# Altium integrated library Xilinx XCF.IntLib: 20 symbols
Pins are listed as number, name and electrical type; pins without a type are passive.

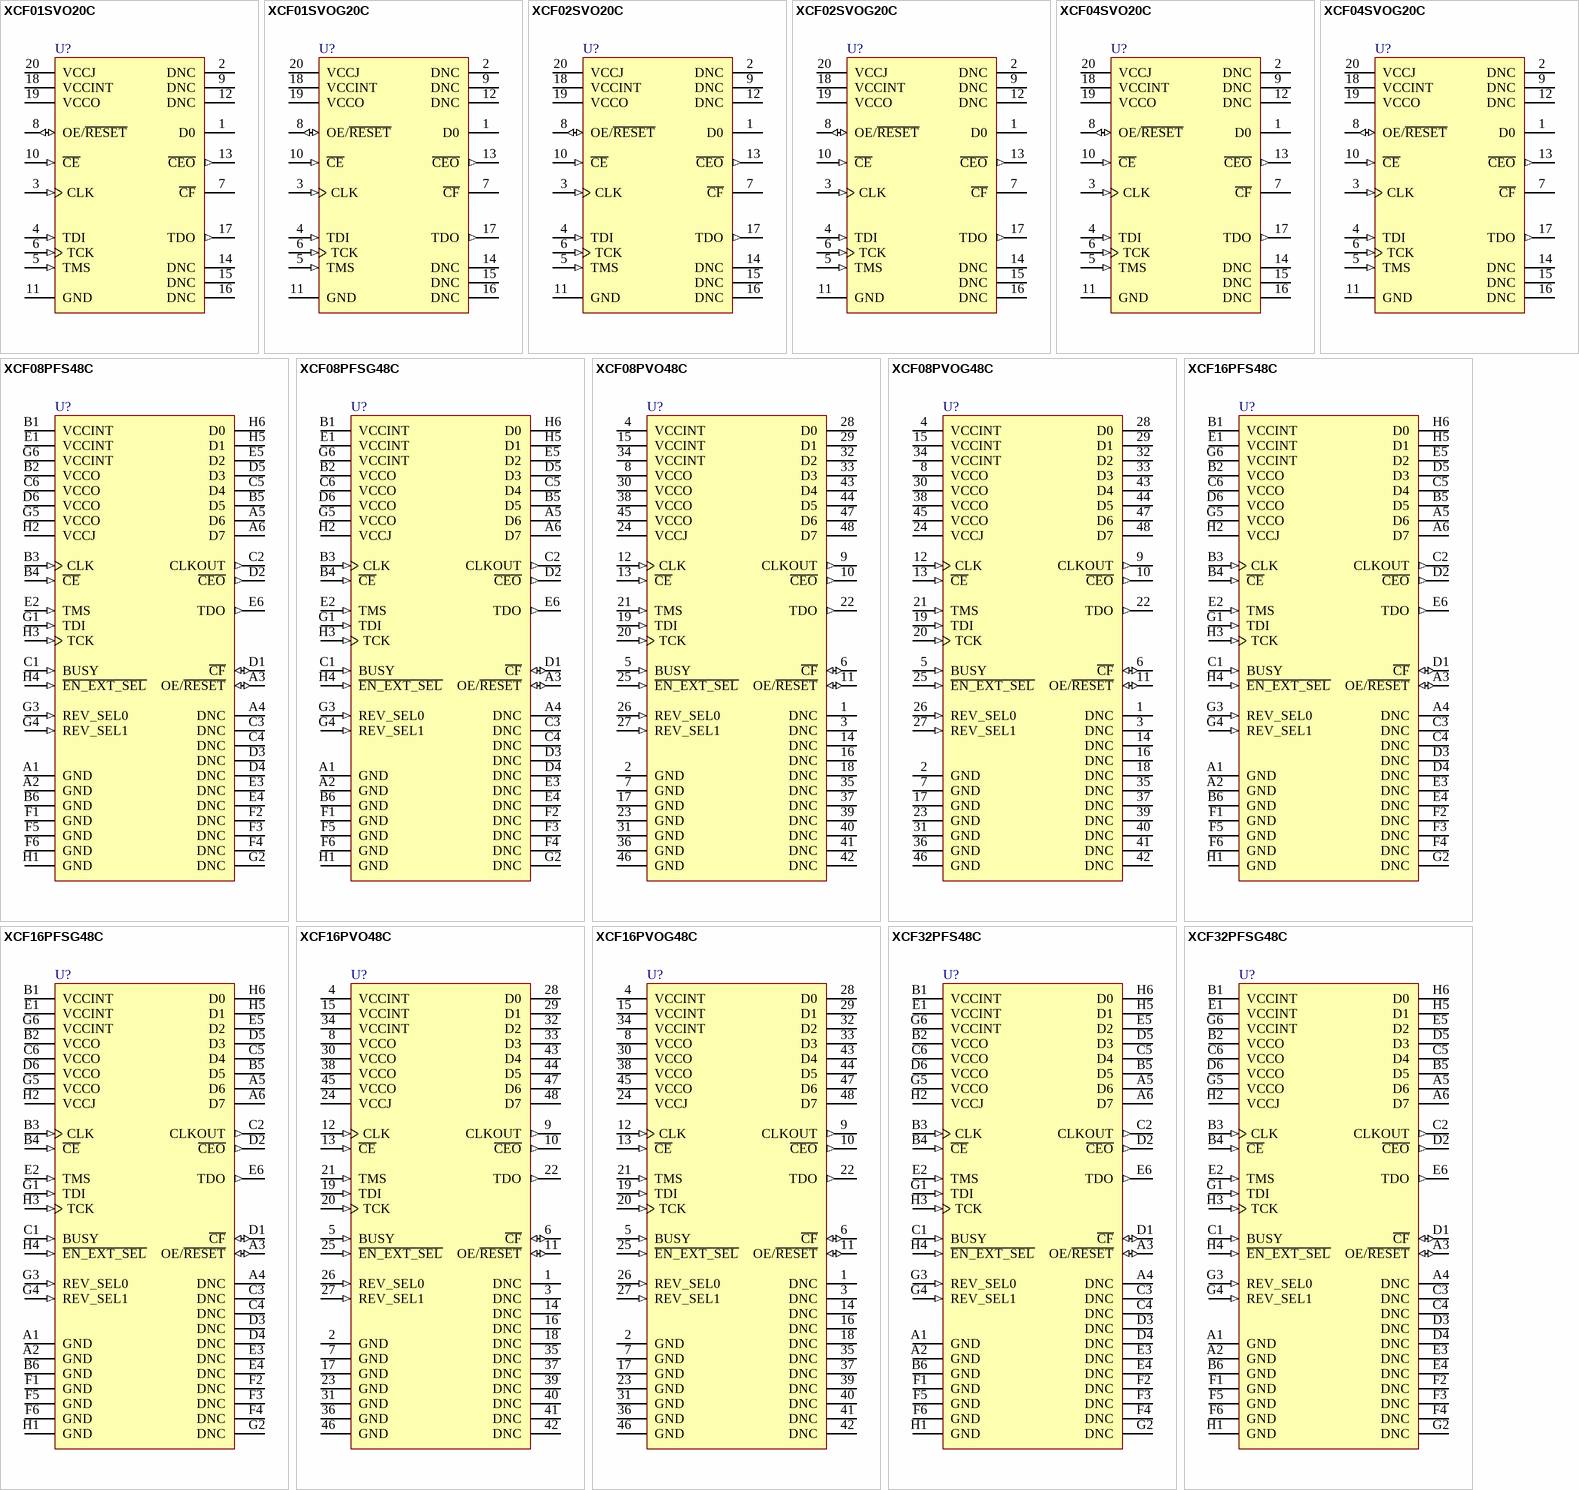
[diagram p0: symbols XCF01SVO20C to XCF32PFSG48C]

## XCF01SVO20C
designator U?
XCF00S Series, Platform Flash In-System Programmable Configuration 3.3V PROM, 20-Pin TSOP, 1-Megabit, Commercial Grade; Published: 17-Sep-2003; LatestRevisionDate: 16-Nov-2009; LatestRevisionNote: Updated to datasheet version 2.17, Oct-2009.; DatasheetVersion: ver2.17, Oct-2009; PackageVersion: ver1.3, Dec-2008; PackageReference: VO20; Publisher: Altium Limited; PackageDescription: 20-Pin Thin Shrink Small Outline Package (VO20); Supplier 1: Digi-Key; Supplier Part Number 1: XCF01SVO20C-ND; Supplier 2: Newark; Supplier Part Number 2: 70K9904; Code_JEDEC: MO-153-AC; ComponentLink1Description: Platform Flash Datasheet; ComponentLink1URL: http://www.xilinx.com/support/documentation/data_sheets/ds123.pdf; ComponentLink2Description: VO20 Package Drawing; ComponentLink2URL: http://www.xilinx.com/support/documentation/package_specs/vo20.pdf; ComponentLink3Description: Configuration PROM Documents; ComponentLink3URL: http://www.xilinx.com/support/documentation/configuration_proms.htm; ComponentLink4Description: Xilinx.com Home; ComponentLink4URL: http://www.xilinx.com
footprint VO20_N (TSOP, 20-Leads, Body 6.5x4.4mm, Pitch 0.65mm, IPC Medium Density)
footprint VO20_L (TSOP, 20-Leads, Body 6.5x4.4mm, Pitch 0.65mm, IPC High Density)
footprint VO20_M (TSOP, 20-Leads, Body 6.5x4.4mm, Pitch 0.65mm, IPC Low Density)
pins: 1 D0 (hiz) "Serial Data Output, for configuring an FPGA in serial mode.", 2 DNC "Leave Unconnected.", 3 CLK (in) "Configuration Clock Input.", 4 TDI (in) "JTAG Serial Data Input.", 5 TMS (in) "JTAG Mode Select Input.", 6 TCK (in) "JTAG Test Clock Input.", 7 ~{CF} (oc) "Configuration Pulse (Open-Drain Output).", 8 OE/~{RESET} (io) "Output Enable/Reset (Open-Drain I/O).", 9 DNC "Leave Unconnected.", 10 ~{CE} (in) "Chip Enable Input.", 11 GND (power) "Ground", 12 DNC "Leave Unconnected.", 13 ~{CEO} (out) "Chip Enable Output, connects to the CE input of the next PROM in the chain.", 14 DNC "Leave Unconnected.", 15 DNC "Leave Unconnected.", 16 DNC "Leave Unconnected.", 17 TDO (out) "JTAG Serial Data Output.", 18 VCCINT (power) "+3.3V Supply for internal logic.", 19 VCCO (power) "+3.3V, 2.5V, or 1.8V I/O Supply.", 20 VCCJ (power) "+3.3V or 2.5V JTAG Signals I/O Supply."

## XCF01SVOG20C
designator U?
XCF00S Series, Platform Flash In-System Programmable Configuration 3.3V PROM, 20-Pin TSOP, 1-Megabit, Commercial Grade, Pb-Free; Published: 4-Mar-2005; DatasheetVersion: ver2.17, Oct-2009; PackageVersion: ver1.3, Dec-2008; PackageReference: VOG20; Publisher: Altium Limited; PackageDescription: 20-Pin Thin Shrink Small Outline Package (VOG20) - Pb-Free; Supplier 1: Digi-Key; Supplier Part Number 1: 122-1286-5-ND; Supplier 2: Newark; Supplier Part Number 2: 20M0881; Code_JEDEC: MO-153-AC; ComponentLink1Description: Platform Flash Datasheet; ComponentLink1URL: http://www.xilinx.com/support/documentation/data_sheets/ds123.pdf; ComponentLink2Description: VOG20 Package Drawing; ComponentLink2URL: http://www.xilinx.com/support/documentation/package_specs/vo20.pdf; ComponentLink3Description: Configuration PROM Documents; ComponentLink3URL: http://www.xilinx.com/support/documentation/configuration_proms.htm; ComponentLink4Description: Xilinx.com Home; ComponentLink4URL: http://www.xilinx.com
footprint VOG20_N (TSOP, 20-Leads, Body 6.5x4.4mm, Pitch 0.65mm, IPC Medium Density)
footprint VOG20_L (TSOP, 20-Leads, Body 6.5x4.4mm, Pitch 0.65mm, IPC High Density)
footprint VOG20_M (TSOP, 20-Leads, Body 6.5x4.4mm, Pitch 0.65mm, IPC Low Density)
pins: 1 D0 (hiz) "Serial Data Output, for configuring an FPGA in serial mode.", 2 DNC "Leave Unconnected.", 3 CLK (in) "Configuration Clock Input.", 4 TDI (in) "JTAG Serial Data Input.", 5 TMS (in) "JTAG Mode Select Input.", 6 TCK (in) "JTAG Test Clock Input.", 7 ~{CF} (oc) "Configuration Pulse (Open-Drain Output).", 8 OE/~{RESET} (io) "Output Enable/Reset (Open-Drain I/O).", 9 DNC "Leave Unconnected.", 10 ~{CE} (in) "Chip Enable Input.", 11 GND (power) "Ground", 12 DNC "Leave Unconnected.", 13 ~{CEO} (out) "Chip Enable Output, connects to the CE input of the next PROM in the chain.", 14 DNC "Leave Unconnected.", 15 DNC "Leave Unconnected.", 16 DNC "Leave Unconnected.", 17 TDO (out) "JTAG Serial Data Output.", 18 VCCINT (power) "+3.3V Supply for internal logic.", 19 VCCO (power) "+3.3V, 2.5V, or 1.8V I/O Supply.", 20 VCCJ (power) "+3.3V or 2.5V JTAG Signals I/O Supply."

## XCF02SVO20C
designator U?
XCF00S Series, Platform Flash In-System Programmable Configuration 3.3V PROM, 20-Pin TSOP, 2-Megabit, Commercial Grade; Published: 17-Sep-2003; LatestRevisionDate: 16-Nov-2009; LatestRevisionNote: Updated to datasheet version 2.17, Oct-2009.; DatasheetVersion: ver2.17, Oct-2009; PackageVersion: ver1.3, Dec-2008; PackageReference: VO20; Publisher: Altium Limited; PackageDescription: 20-Pin Thin Shrink Small Outline Package (VO20); Supplier 1: Digi-Key; Supplier Part Number 1: XCF02SVO20C-ND; Code_JEDEC: MO-153-AC; ComponentLink1Description: Platform Flash Datasheet; ComponentLink1URL: http://www.xilinx.com/support/documentation/data_sheets/ds123.pdf; ComponentLink2Description: VO20 Package Drawing; ComponentLink2URL: http://www.xilinx.com/support/documentation/package_specs/vo20.pdf; ComponentLink3Description: Configuration PROM Documents; ComponentLink3URL: http://www.xilinx.com/support/documentation/configuration_proms.htm; ComponentLink4Description: Xilinx.com Home; ComponentLink4URL: http://www.xilinx.com
footprint VO20_N (TSOP, 20-Leads, Body 6.5x4.4mm, Pitch 0.65mm, IPC Medium Density)
footprint VO20_L (TSOP, 20-Leads, Body 6.5x4.4mm, Pitch 0.65mm, IPC High Density)
footprint VO20_M (TSOP, 20-Leads, Body 6.5x4.4mm, Pitch 0.65mm, IPC Low Density)
pins: 1 D0 (hiz) "Serial Data Output, for configuring an FPGA in serial mode.", 2 DNC "Leave Unconnected.", 3 CLK (in) "Configuration Clock Input.", 4 TDI (in) "JTAG Serial Data Input.", 5 TMS (in) "JTAG Mode Select Input.", 6 TCK (in) "JTAG Test Clock Input.", 7 ~{CF} (oc) "Configuration Pulse (Open-Drain Output).", 8 OE/~{RESET} (io) "Output Enable/Reset (Open-Drain I/O).", 9 DNC "Leave Unconnected.", 10 ~{CE} (in) "Chip Enable Input.", 11 GND (power) "Ground", 12 DNC "Leave Unconnected.", 13 ~{CEO} (out) "Chip Enable Output, connects to the CE input of the next PROM in the chain.", 14 DNC "Leave Unconnected.", 15 DNC "Leave Unconnected.", 16 DNC "Leave Unconnected.", 17 TDO (out) "JTAG Serial Data Output.", 18 VCCINT (power) "+3.3V Supply for internal logic.", 19 VCCO (power) "+3.3V, 2.5V, or 1.8V I/O Supply.", 20 VCCJ (power) "+3.3V or 2.5V JTAG Signals I/O Supply."

## XCF02SVOG20C
designator U?
XCF00S Series, Platform Flash In-System Programmable Configuration 3.3V PROM, 20-Pin TSOP, 2-Megabit, Commercial Grade, Pb-Free; Published: 4-Mar-2005; DatasheetVersion: ver2.17, Oct-2009; PackageVersion: ver1.3, Dec-2008; PackageReference: VOG20; Publisher: Altium Limited; PackageDescription: 20-Pin Thin Shrink Small Outline Package (VOG20) - Pb-Free; Supplier 1: Digi-Key; Supplier Part Number 1: 122-1287-5-ND; Code_JEDEC: MO-153-AC; ComponentLink1Description: Platform Flash Datasheet; ComponentLink1URL: http://www.xilinx.com/support/documentation/data_sheets/ds123.pdf; ComponentLink2Description: VOG20 Package Drawing; ComponentLink2URL: http://www.xilinx.com/support/documentation/package_specs/vo20.pdf; ComponentLink3Description: Configuration PROM Documents; ComponentLink3URL: http://www.xilinx.com/support/documentation/configuration_proms.htm; ComponentLink4Description: Xilinx.com Home; ComponentLink4URL: http://www.xilinx.com
footprint VOG20_N (TSOP, 20-Leads, Body 6.5x4.4mm, Pitch 0.65mm, IPC Medium Density)
footprint VOG20_L (TSOP, 20-Leads, Body 6.5x4.4mm, Pitch 0.65mm, IPC High Density)
footprint VOG20_M (TSOP, 20-Leads, Body 6.5x4.4mm, Pitch 0.65mm, IPC Low Density)
pins: 1 D0 (hiz) "Serial Data Output, for configuring an FPGA in serial mode.", 2 DNC "Leave Unconnected.", 3 CLK (in) "Configuration Clock Input.", 4 TDI (in) "JTAG Serial Data Input.", 5 TMS (in) "JTAG Mode Select Input.", 6 TCK (in) "JTAG Test Clock Input.", 7 ~{CF} (oc) "Configuration Pulse (Open-Drain Output).", 8 OE/~{RESET} (io) "Output Enable/Reset (Open-Drain I/O).", 9 DNC "Leave Unconnected.", 10 ~{CE} (in) "Chip Enable Input.", 11 GND (power) "Ground", 12 DNC "Leave Unconnected.", 13 ~{CEO} (out) "Chip Enable Output, connects to the CE input of the next PROM in the chain.", 14 DNC "Leave Unconnected.", 15 DNC "Leave Unconnected.", 16 DNC "Leave Unconnected.", 17 TDO (out) "JTAG Serial Data Output.", 18 VCCINT (power) "+3.3V Supply for internal logic.", 19 VCCO (power) "+3.3V, 2.5V, or 1.8V I/O Supply.", 20 VCCJ (power) "+3.3V or 2.5V JTAG Signals I/O Supply."

## XCF04SVO20C
designator U?
XCF00S Series, Platform Flash In-System Programmable Configuration 3.3V PROM, 20-Pin TSOP, 4-Megabit, Commercial Grade; Published: 17-Sep-2003; LatestRevisionDate: 16-Nov-2009; LatestRevisionNote: Updated to datasheet version 2.17, Oct-2009.; DatasheetVersion: ver2.17, Oct-2009; PackageVersion: ver1.3, Dec-2008; PackageReference: VO20; Publisher: Altium Limited; PackageDescription: 20-Pin Thin Shrink Small Outline Package (VO20); Supplier 1: Digi-Key; Supplier Part Number 1: XCF04SVO20C-ND; Code_JEDEC: MO-153-AC; ComponentLink1Description: Platform Flash Datasheet; ComponentLink1URL: http://www.xilinx.com/support/documentation/data_sheets/ds123.pdf; ComponentLink2Description: VO20 Package Drawing; ComponentLink2URL: http://www.xilinx.com/support/documentation/package_specs/vo20.pdf; ComponentLink3Description: Configuration PROM Documents; ComponentLink3URL: http://www.xilinx.com/support/documentation/configuration_proms.htm; ComponentLink4Description: Xilinx.com Home; ComponentLink4URL: http://www.xilinx.com
footprint VO20_N (TSOP, 20-Leads, Body 6.5x4.4mm, Pitch 0.65mm, IPC Medium Density)
footprint VO20_L (TSOP, 20-Leads, Body 6.5x4.4mm, Pitch 0.65mm, IPC High Density)
footprint VO20_M (TSOP, 20-Leads, Body 6.5x4.4mm, Pitch 0.65mm, IPC Low Density)
pins: 1 D0 (hiz) "Serial Data Output, for configuring an FPGA in serial mode.", 2 DNC "Leave Unconnected.", 3 CLK (in) "Configuration Clock Input.", 4 TDI (in) "JTAG Serial Data Input.", 5 TMS (in) "JTAG Mode Select Input.", 6 TCK (in) "JTAG Test Clock Input.", 7 ~{CF} (oc) "Configuration Pulse (Open-Drain Output).", 8 OE/~{RESET} (io) "Output Enable/Reset (Open-Drain I/O).", 9 DNC "Leave Unconnected.", 10 ~{CE} (in) "Chip Enable Input.", 11 GND (power) "Ground", 12 DNC "Leave Unconnected.", 13 ~{CEO} (out) "Chip Enable Output, connects to the CE input of the next PROM in the chain.", 14 DNC "Leave Unconnected.", 15 DNC "Leave Unconnected.", 16 DNC "Leave Unconnected.", 17 TDO (out) "JTAG Serial Data Output.", 18 VCCINT (power) "+3.3V Supply for internal logic.", 19 VCCO (power) "+3.3V, 2.5V, or 1.8V I/O Supply.", 20 VCCJ (power) "+3.3V or 2.5V JTAG Signals I/O Supply."

## XCF04SVOG20C
designator U?
XCF00S Series, Platform Flash In-System Programmable Configuration 3.3V PROM, 20-Pin TSOP, 4-Megabit, Commercial Grade, Pb-Free; Published: 4-Mar-2005; DatasheetVersion: ver2.17, Oct-2009; PackageVersion: ver1.3, Dec-2008; PackageReference: VOG20; Publisher: Altium Limited; PackageDescription: 20-Pin Thin Shrink Small Outline Package (VOG20) - Pb-Free; Supplier 1: Digi-Key; Supplier Part Number 1: 122-1288-5-ND; Supplier 2: Farnell; Supplier Part Number 2: 1605850; Supplier 3: Newark; Supplier Part Number 3: 12N2449; Code_JEDEC: MO-153-AC; ComponentLink1Description: Platform Flash Datasheet; ComponentLink1URL: http://www.xilinx.com/support/documentation/data_sheets/ds123.pdf; ComponentLink2Description: VOG20 Package Drawing; ComponentLink2URL: http://www.xilinx.com/support/documentation/package_specs/vo20.pdf; ComponentLink3Description: Configuration PROM Documents; ComponentLink3URL: http://www.xilinx.com/support/documentation/configuration_proms.htm; ComponentLink4Description: Xilinx.com Home; ComponentLink4URL: http://www.xilinx.com
footprint VOG20_N (TSOP, 20-Leads, Body 6.5x4.4mm, Pitch 0.65mm, IPC Medium Density)
footprint VOG20_L (TSOP, 20-Leads, Body 6.5x4.4mm, Pitch 0.65mm, IPC High Density)
footprint VOG20_M (TSOP, 20-Leads, Body 6.5x4.4mm, Pitch 0.65mm, IPC Low Density)
pins: 1 D0 (hiz) "Serial Data Output, for configuring an FPGA in serial mode.", 2 DNC "Leave Unconnected.", 3 CLK (in) "Configuration Clock Input.", 4 TDI (in) "JTAG Serial Data Input.", 5 TMS (in) "JTAG Mode Select Input.", 6 TCK (in) "JTAG Test Clock Input.", 7 ~{CF} (oc) "Configuration Pulse (Open-Drain Output).", 8 OE/~{RESET} (io) "Output Enable/Reset (Open-Drain I/O).", 9 DNC "Leave Unconnected.", 10 ~{CE} (in) "Chip Enable Input.", 11 GND (power) "Ground", 12 DNC "Leave Unconnected.", 13 ~{CEO} (out) "Chip Enable Output, connects to the CE input of the next PROM in the chain.", 14 DNC "Leave Unconnected.", 15 DNC "Leave Unconnected.", 16 DNC "Leave Unconnected.", 17 TDO (out) "JTAG Serial Data Output.", 18 VCCINT (power) "+3.3V Supply for internal logic.", 19 VCCO (power) "+3.3V, 2.5V, or 1.8V I/O Supply.", 20 VCCJ (power) "+3.3V or 2.5V JTAG Signals I/O Supply."

## XCF08PFS48C
designator U?
XCF00P Series, Platform Flash In-System Programmable Configuration 1.8V PROM, 48 Ball BGA, 8-Megabit, Commercial Grade; Published: 17-Dec-2003; LatestRevisionDate: 16-Nov-2009; LatestRevisionNote: Updated to datasheet version 2.17, Oct-2009.; DatasheetVersion: ver2.17, Oct-2009; PackageVersion: ver1.0.1, Apr-2005; PackageReference: FS48; Publisher: Altium Limited; PackageDescription: 48-Ball Chip Scale Ball Grid Array 0.8 mm Pitch (FS48); Code_JEDEC: MO-210-AD; ComponentLink1Description: Platform Flash Datasheet; ComponentLink1URL: http://www.xilinx.com/support/documentation/data_sheets/ds123.pdf; ComponentLink2Description: FS48 Package Drawing; ComponentLink2URL: http://www.xilinx.com/support/documentation/package_specs/fs48.pdf; ComponentLink3Description: Configuration PROM Documents; ComponentLink3URL: http://www.xilinx.com/support/documentation/configuration_proms.htm; ComponentLink4Description: Xilinx.com Home; ComponentLink4URL: http://www.xilinx.com
footprint FS48 (BGA, 48-Leads, Body 9x8mm, Pitch 0.8mm)
pins: A1 GND (power), A2 GND (power), A3 OE/~{RESET} (io), A4 DNC, A5 D6 (hiz), A6 D7 (hiz), B1 VCCINT (power), B2 VCCO (power), B3 CLK (in), B4 ~{CE} (in), B5 D5 (hiz), B6 GND (power), C1 BUSY (in), C2 CLKOUT (out), C3 DNC, C4 DNC, C5 D4 (hiz), C6 VCCO (power), D1 ~{CF} (io), D2 ~{CEO} (out), D3 DNC, D4 DNC, D5 D3 (hiz), D6 VCCO (power), E1 VCCINT (power), E2 TMS (in), E3 DNC, E4 DNC, E5 D2 (hiz), E6 TDO (out), F1 GND (power), F2 DNC, F3 DNC, F4 DNC, F5 GND (power), F6 GND (power), G1 TDI (in), G2 DNC, G3 REV_SEL0 (in), G4 REV_SEL1 (in), G5 VCCO (power), G6 VCCINT (power), H1 GND (power), H2 VCCJ (power), H3 TCK (in), H4 ~{EN_EXT_SEL} (in), H5 D1 (hiz), H6 D0 (hiz)

## XCF08PFSG48C
designator U?
XCF00P Series, Platform Flash In-System Programmable Configuration 1.8V PROM, 48 Ball BGA, 8-Megabit, Commercial Grade, Pb-Free; Published: 4-Mar-2005; LatestRevisionDate: 16-Nov-2009; LatestRevisionNote: Updated to datasheet version 2.17, Oct-2009.; DatasheetVersion: ver2.17, Oct-2009; PackageVersion: ver1.0.1, Apr-2005; PackageReference: FSG48; Publisher: Altium Limited; PackageDescription: 48-Ball Chip Scale Ball Grid Array 0.8 mm Pitch (FSG48) - Pb-Free; Supplier 1: Digi-Key; Supplier Part Number 1: 122-1453-ND; Supplier 2: Newark; Supplier Part Number 2: 73P7418; Code_JEDEC: MO-210-AD; ComponentLink1Description: Platform Flash Datasheet; ComponentLink1URL: http://www.xilinx.com/support/documentation/data_sheets/ds123.pdf; ComponentLink2Description: FSG48 Package Drawing; ComponentLink2URL: http://www.xilinx.com/support/documentation/package_specs/fs48.pdf; ComponentLink3Description: Configuration PROM Documents; ComponentLink3URL: http://www.xilinx.com/support/documentation/configuration_proms.htm; ComponentLink4Description: Xilinx.com Home; ComponentLink4URL: http://www.xilinx.com
footprint FSG48 (BGA, 48-Leads, Body 9x8mm, Pitch 0.8mm)
pins: A1 GND (power), A2 GND (power), A3 OE/~{RESET} (io), A4 DNC, A5 D6 (hiz), A6 D7 (hiz), B1 VCCINT (power), B2 VCCO (power), B3 CLK (in), B4 ~{CE} (in), B5 D5 (hiz), B6 GND (power), C1 BUSY (in), C2 CLKOUT (out), C3 DNC, C4 DNC, C5 D4 (hiz), C6 VCCO (power), D1 ~{CF} (io), D2 ~{CEO} (out), D3 DNC, D4 DNC, D5 D3 (hiz), D6 VCCO (power), E1 VCCINT (power), E2 TMS (in), E3 DNC, E4 DNC, E5 D2 (hiz), E6 TDO (out), F1 GND (power), F2 DNC, F3 DNC, F4 DNC, F5 GND (power), F6 GND (power), G1 TDI (in), G2 DNC, G3 REV_SEL0 (in), G4 REV_SEL1 (in), G5 VCCO (power), G6 VCCINT (power), H1 GND (power), H2 VCCJ (power), H3 TCK (in), H4 ~{EN_EXT_SEL} (in), H5 D1 (hiz), H6 D0 (hiz)

## XCF08PVO48C
designator U?
XCF00P Series, Platform Flash In-System Programmable Configuration 1.8V PROM, 48-Pin TSSOP, 8-Megabit, Commercial Grade; ComponentAvailability: Discontinued. Recommended Replacement XCF08PVOG48C; Published: 17-Dec-2003; LatestRevisionDate: 16-Nov-2009; LatestRevisionNote: Updated to datasheet version 2.17, Oct-2009.; DatasheetVersion: ver2.17, Oct-2009; PackageVersion: ver1.2.1, Mar-2005; PackageReference: VO48; Publisher: Altium Limited; PackageDescription: 48-Pin Thin Small Outline Package 0.5 mm Pitch (VO48); Code_JEDEC: MO-142-DD; ComponentLink1Description: Platform Flash Datasheet; ComponentLink1URL: http://www.xilinx.com/support/documentation/data_sheets/ds123.pdf; ComponentLink2Description: Discontinuation Notice; ComponentLink2URL: http://www.xilinx.com/support/documentation/customer_notices/xcn09030.pdf; ComponentLink3Description: VO48 Package Drawing; ComponentLink3URL: http://www.xilinx.com/support/documentation/package_specs/vo48.pdf; ComponentLink4Description: Configuration PROM Documents; ComponentLink4URL: http://www.xilinx.com/support/documentation/configuration_proms.htm; ComponentLink5Description: Xilinx.com Home; ComponentLink5URL: http://www.xilinx.com
footprint VO48_N (TSSOP, 48-Leads, Body 12x18.5mm, Pitch 0.5mm, IPC Medium Density)
footprint VO48_L (TSSOP, 48-Leads, Body 12x18.5mm, Pitch 0.5mm, IPC High Density)
footprint VO48_M (TSSOP, 48-Leads, Body 12x18.5mm, Pitch 0.5mm, IPC Low Density)
pins: 1 DNC, 2 GND (power), 3 DNC, 4 VCCINT (power), 5 BUSY (in), 6 ~{CF} (io), 7 GND (power), 8 VCCO (power), 9 CLKOUT (out), 10 ~{CEO} (out), 11 OE/~{RESET} (io), 12 CLK (in), 13 ~{CE} (in), 14 DNC, 15 VCCINT (power), 16 DNC, 17 GND (power), 18 DNC, 19 TDI (in), 20 TCK (in), 21 TMS (in), 22 TDO (out), 23 GND (power), 24 VCCJ (power), 25 ~{EN_EXT_SEL} (in), 26 REV_SEL0 (in), 27 REV_SEL1 (in), 28 D0 (hiz), 29 D1 (hiz), 30 VCCO (power), 31 GND (power), 32 D2 (hiz), 33 D3 (hiz), 34 VCCINT (power), 35 DNC, 36 GND (power), 37 DNC, 38 VCCO (power), 39 DNC, 40 DNC, 41 DNC, 42 DNC, 43 D4 (hiz), 44 D5 (hiz), 45 VCCO (power), 46 GND (power), 47 D6 (hiz), 48 D7 (hiz)

## XCF08PVOG48C
designator U?
XCF00P Series, Platform Flash In-System Programmable Configuration 1.8V PROM, 48-Pin TSSOP, 8-Megabit, Commercial Grade, Pb-Free; Published: 4-Mar-2005; DatasheetVersion: ver2.17, Oct-2009; PackageVersion: ver1.2.1, Mar-2005; PackageReference: VOG48; Publisher: Altium Limited; PackageDescription: 48-Pin Thin Small Outline Package 0.5 mm Pitch (VOG48) - Pb-Free; Supplier 1: Digi-Key; Supplier Part Number 1: 122-1454-5-ND; Code_JEDEC: MO-142-DD; ComponentLink1Description: Platform Flash Datasheet; ComponentLink1URL: http://www.xilinx.com/support/documentation/data_sheets/ds123.pdf; ComponentLink2Description: VOG48 Package Drawing; ComponentLink2URL: http://www.xilinx.com/support/documentation/package_specs/vo48.pdf; ComponentLink3Description: Configuration PROM Documents; ComponentLink3URL: http://www.xilinx.com/support/documentation/configuration_proms.htm; ComponentLink4Description: Xilinx.com Home; ComponentLink4URL: http://www.xilinx.com
footprint VOG48_N (TSSOP, 48-Leads, Body 12x18.5mm, Pitch 0.5mm, IPC Medium Density)
footprint VOG48_L (TSSOP, 48-Leads, Body 12x18.5mm, Pitch 0.5mm, IPC High Density)
footprint VOG48_M (TSSOP, 48-Leads, Body 12x18.5mm, Pitch 0.5mm, IPC Low Density)
pins: 1 DNC, 2 GND (power), 3 DNC, 4 VCCINT (power), 5 BUSY (in), 6 ~{CF} (io), 7 GND (power), 8 VCCO (power), 9 CLKOUT (out), 10 ~{CEO} (out), 11 OE/~{RESET} (io), 12 CLK (in), 13 ~{CE} (in), 14 DNC, 15 VCCINT (power), 16 DNC, 17 GND (power), 18 DNC, 19 TDI (in), 20 TCK (in), 21 TMS (in), 22 TDO (out), 23 GND (power), 24 VCCJ (power), 25 ~{EN_EXT_SEL} (in), 26 REV_SEL0 (in), 27 REV_SEL1 (in), 28 D0 (hiz), 29 D1 (hiz), 30 VCCO (power), 31 GND (power), 32 D2 (hiz), 33 D3 (hiz), 34 VCCINT (power), 35 DNC, 36 GND (power), 37 DNC, 38 VCCO (power), 39 DNC, 40 DNC, 41 DNC, 42 DNC, 43 D4 (hiz), 44 D5 (hiz), 45 VCCO (power), 46 GND (power), 47 D6 (hiz), 48 D7 (hiz)

## XCF16PFS48C
designator U?
XCF00P Series, Platform Flash In-System Programmable Configuration 1.8V PROM, 48 Ball BGA, 16-Megabit, Commercial Grade; Published: 17-Dec-2003; LatestRevisionDate: 16-Nov-2009; LatestRevisionNote: Updated to datasheet version 2.17, Oct-2009.; DatasheetVersion: ver2.17, Oct-2009; PackageVersion: ver1.0.1, Apr-2005; PackageReference: FS48; Publisher: Altium Limited; PackageDescription: 48-Ball Chip Scale Ball Grid Array 0.8 mm Pitch (FS48); Supplier 1: Newark; Supplier Part Number 1: 06P9380; Code_JEDEC: MO-210-AD; ComponentLink1Description: Platform Flash Datasheet; ComponentLink1URL: http://www.xilinx.com/support/documentation/data_sheets/ds123.pdf; ComponentLink2Description: FS48 Package Drawing; ComponentLink2URL: http://www.xilinx.com/support/documentation/package_specs/fs48.pdf; ComponentLink3Description: Configuration PROM Documents; ComponentLink3URL: http://www.xilinx.com/support/documentation/configuration_proms.htm; ComponentLink4Description: Xilinx.com Home; ComponentLink4URL: http://www.xilinx.com
footprint FS48 (BGA, 48-Leads, Body 9x8mm, Pitch 0.8mm)
pins: A1 GND (power), A2 GND (power), A3 OE/~{RESET} (io), A4 DNC, A5 D6 (hiz), A6 D7 (hiz), B1 VCCINT (power), B2 VCCO (power), B3 CLK (in), B4 ~{CE} (in), B5 D5 (hiz), B6 GND (power), C1 BUSY (in), C2 CLKOUT (out), C3 DNC, C4 DNC, C5 D4 (hiz), C6 VCCO (power), D1 ~{CF} (io), D2 ~{CEO} (out), D3 DNC, D4 DNC, D5 D3 (hiz), D6 VCCO (power), E1 VCCINT (power), E2 TMS (in), E3 DNC, E4 DNC, E5 D2 (hiz), E6 TDO (out), F1 GND (power), F2 DNC, F3 DNC, F4 DNC, F5 GND (power), F6 GND (power), G1 TDI (in), G2 DNC, G3 REV_SEL0 (in), G4 REV_SEL1 (in), G5 VCCO (power), G6 VCCINT (power), H1 GND (power), H2 VCCJ (power), H3 TCK (in), H4 ~{EN_EXT_SEL} (in), H5 D1 (hiz), H6 D0 (hiz)

## XCF16PFSG48C
designator U?
XCF00P Series, Platform Flash In-System Programmable Configuration 1.8V PROM, 48 Ball BGA, 16-Megabit, Commercial Grade, Pb-Free; Published: 4-Mar-2005; LatestRevisionDate: 16-Nov-2009; LatestRevisionNote: Updated to datasheet version 2.17, Oct-2009.; DatasheetVersion: ver2.17, Oct-2009; PackageVersion: ver1.0.1, Apr-2005; PackageReference: FSG48; Publisher: Altium Limited; PackageDescription: 48-Ball Chip Scale Ball Grid Array 0.8 mm Pitch (FSG48) - Pb-Free; Supplier 1: Digi-Key; Supplier Part Number 1: 122-1455-ND; Supplier 2: Newark; Supplier Part Number 2: 05N1282; Code_JEDEC: MO-210-AD; ComponentLink1Description: Platform Flash Datasheet; ComponentLink1URL: http://www.xilinx.com/support/documentation/data_sheets/ds123.pdf; ComponentLink2Description: FSG48 Package Drawing; ComponentLink2URL: http://www.xilinx.com/support/documentation/package_specs/fs48.pdf; ComponentLink3Description: Configuration PROM Documents; ComponentLink3URL: http://www.xilinx.com/support/documentation/configuration_proms.htm; ComponentLink4Description: Xilinx.com Home; ComponentLink4URL: http://www.xilinx.com
footprint FSG48 (BGA, 48-Leads, Body 9x8mm, Pitch 0.8mm)
pins: A1 GND (power), A2 GND (power), A3 OE/~{RESET} (io), A4 DNC, A5 D6 (hiz), A6 D7 (hiz), B1 VCCINT (power), B2 VCCO (power), B3 CLK (in), B4 ~{CE} (in), B5 D5 (hiz), B6 GND (power), C1 BUSY (in), C2 CLKOUT (out), C3 DNC, C4 DNC, C5 D4 (hiz), C6 VCCO (power), D1 ~{CF} (io), D2 ~{CEO} (out), D3 DNC, D4 DNC, D5 D3 (hiz), D6 VCCO (power), E1 VCCINT (power), E2 TMS (in), E3 DNC, E4 DNC, E5 D2 (hiz), E6 TDO (out), F1 GND (power), F2 DNC, F3 DNC, F4 DNC, F5 GND (power), F6 GND (power), G1 TDI (in), G2 DNC, G3 REV_SEL0 (in), G4 REV_SEL1 (in), G5 VCCO (power), G6 VCCINT (power), H1 GND (power), H2 VCCJ (power), H3 TCK (in), H4 ~{EN_EXT_SEL} (in), H5 D1 (hiz), H6 D0 (hiz)

## XCF16PVO48C
designator U?
XCF00P Series, Platform Flash In-System Programmable Configuration 1.8V PROM, 48-Pin TSSOP, 16-Megabit, Commercial Grade; ComponentAvailability: Discontinued. Recommended Replacement XCF16PVOG48C; Published: 17-Dec-2003; LatestRevisionDate: 16-Nov-2009; LatestRevisionNote: Updated to datasheet version 2.17, Oct-2009.; DatasheetVersion: ver2.17, Oct-2009; PackageVersion: ver1.2.1, Mar-2005; PackageReference: VO48; Publisher: Altium Limited; PackageDescription: 48-Pin Thin Small Outline Package 0.5 mm Pitch (VO48); Code_JEDEC: MO-142-DD; ComponentLink1Description: Platform Flash Datasheet; ComponentLink1URL: http://www.xilinx.com/support/documentation/data_sheets/ds123.pdf; ComponentLink2Description: Discontinuation Notice; ComponentLink2URL: http://www.xilinx.com/support/documentation/customer_notices/xcn09030.pdf; ComponentLink3Description: VO48 Package Drawing; ComponentLink3URL: http://www.xilinx.com/support/documentation/package_specs/vo48.pdf; ComponentLink4Description: Configuration PROM Documents; ComponentLink4URL: http://www.xilinx.com/support/documentation/configuration_proms.htm; ComponentLink5Description: Xilinx.com Home; ComponentLink5URL: http://www.xilinx.com
footprint VO48_N (TSSOP, 48-Leads, Body 12x18.5mm, Pitch 0.5mm, IPC Medium Density)
footprint VO48_L (TSSOP, 48-Leads, Body 12x18.5mm, Pitch 0.5mm, IPC High Density)
footprint VO48_M (TSSOP, 48-Leads, Body 12x18.5mm, Pitch 0.5mm, IPC Low Density)
pins: 1 DNC, 2 GND (power), 3 DNC, 4 VCCINT (power), 5 BUSY (in), 6 ~{CF} (io), 7 GND (power), 8 VCCO (power), 9 CLKOUT (out), 10 ~{CEO} (out), 11 OE/~{RESET} (io), 12 CLK (in), 13 ~{CE} (in), 14 DNC, 15 VCCINT (power), 16 DNC, 17 GND (power), 18 DNC, 19 TDI (in), 20 TCK (in), 21 TMS (in), 22 TDO (out), 23 GND (power), 24 VCCJ (power), 25 ~{EN_EXT_SEL} (in), 26 REV_SEL0 (in), 27 REV_SEL1 (in), 28 D0 (hiz), 29 D1 (hiz), 30 VCCO (power), 31 GND (power), 32 D2 (hiz), 33 D3 (hiz), 34 VCCINT (power), 35 DNC, 36 GND (power), 37 DNC, 38 VCCO (power), 39 DNC, 40 DNC, 41 DNC, 42 DNC, 43 D4 (hiz), 44 D5 (hiz), 45 VCCO (power), 46 GND (power), 47 D6 (hiz), 48 D7 (hiz)

## XCF16PVOG48C
designator U?
XCF00P Series, Platform Flash In-System Programmable Configuration 1.8V PROM, 48-Pin TSSOP, 16-Megabit, Commercial Grade, Pb-Free; Published: 4-Mar-2005; DatasheetVersion: ver2.17, Oct-2009; PackageVersion: ver1.2.1, Mar-2005; PackageReference: VOG48; Publisher: Altium Limited; PackageDescription: 48-Pin Thin Small Outline Package 0.5 mm Pitch (VOG48) - Pb-Free; Supplier 1: Digi-Key; Supplier Part Number 1: 122-1456-5-ND; Code_JEDEC: MO-142-DD; ComponentLink1Description: Platform Flash Datasheet; ComponentLink1URL: http://www.xilinx.com/support/documentation/data_sheets/ds123.pdf; ComponentLink2Description: VOG48 Package Drawing; ComponentLink2URL: http://www.xilinx.com/support/documentation/package_specs/vo48.pdf; ComponentLink3Description: Configuration PROM Documents; ComponentLink3URL: http://www.xilinx.com/support/documentation/configuration_proms.htm; ComponentLink4Description: Xilinx.com Home; ComponentLink4URL: http://www.xilinx.com
footprint VOG48_N (TSSOP, 48-Leads, Body 12x18.5mm, Pitch 0.5mm, IPC Medium Density)
footprint VOG48_L (TSSOP, 48-Leads, Body 12x18.5mm, Pitch 0.5mm, IPC High Density)
footprint VOG48_M (TSSOP, 48-Leads, Body 12x18.5mm, Pitch 0.5mm, IPC Low Density)
pins: 1 DNC, 2 GND (power), 3 DNC, 4 VCCINT (power), 5 BUSY (in), 6 ~{CF} (io), 7 GND (power), 8 VCCO (power), 9 CLKOUT (out), 10 ~{CEO} (out), 11 OE/~{RESET} (io), 12 CLK (in), 13 ~{CE} (in), 14 DNC, 15 VCCINT (power), 16 DNC, 17 GND (power), 18 DNC, 19 TDI (in), 20 TCK (in), 21 TMS (in), 22 TDO (out), 23 GND (power), 24 VCCJ (power), 25 ~{EN_EXT_SEL} (in), 26 REV_SEL0 (in), 27 REV_SEL1 (in), 28 D0 (hiz), 29 D1 (hiz), 30 VCCO (power), 31 GND (power), 32 D2 (hiz), 33 D3 (hiz), 34 VCCINT (power), 35 DNC, 36 GND (power), 37 DNC, 38 VCCO (power), 39 DNC, 40 DNC, 41 DNC, 42 DNC, 43 D4 (hiz), 44 D5 (hiz), 45 VCCO (power), 46 GND (power), 47 D6 (hiz), 48 D7 (hiz)

## XCF32PFS48C
designator U?
XCF00P Series, Platform Flash In-System Programmable Configuration 1.8V PROM, 48 Ball BGA, 32-Megabit, Commercial Grade; Published: 17-Dec-2003; LatestRevisionDate: 16-Nov-2009; LatestRevisionNote: Updated to datasheet version 2.17, Oct-2009.; DatasheetVersion: ver2.17, Oct-2009; PackageVersion: ver1.0.1, Apr-2005; PackageReference: FS48; Publisher: Altium Limited; PackageDescription: 48-Ball Chip Scale Ball Grid Array 0.8 mm Pitch (FS48); Supplier 1: Digi-Key; Supplier Part Number 1: XCF32PFS48C-ND; Code_JEDEC: MO-210-AD; ComponentLink1Description: Platform Flash Datasheet; ComponentLink1URL: http://www.xilinx.com/support/documentation/data_sheets/ds123.pdf; ComponentLink2Description: FS48 Package Drawing; ComponentLink2URL: http://www.xilinx.com/support/documentation/package_specs/fs48.pdf; ComponentLink3Description: Configuration PROM Documents; ComponentLink3URL: http://www.xilinx.com/support/documentation/configuration_proms.htm; ComponentLink4Description: Xilinx.com Home; ComponentLink4URL: http://www.xilinx.com
footprint FS48 (BGA, 48-Leads, Body 9x8mm, Pitch 0.8mm)
pins: A1 GND (power), A2 GND (power), A3 OE/~{RESET} (io), A4 DNC, A5 D6 (hiz), A6 D7 (hiz), B1 VCCINT (power), B2 VCCO (power), B3 CLK (in), B4 ~{CE} (in), B5 D5 (hiz), B6 GND (power), C1 BUSY (in), C2 CLKOUT (out), C3 DNC, C4 DNC, C5 D4 (hiz), C6 VCCO (power), D1 ~{CF} (io), D2 ~{CEO} (out), D3 DNC, D4 DNC, D5 D3 (hiz), D6 VCCO (power), E1 VCCINT (power), E2 TMS (in), E3 DNC, E4 DNC, E5 D2 (hiz), E6 TDO (out), F1 GND (power), F2 DNC, F3 DNC, F4 DNC, F5 GND (power), F6 GND (power), G1 TDI (in), G2 DNC, G3 REV_SEL0 (in), G4 REV_SEL1 (in), G5 VCCO (power), G6 VCCINT (power), H1 GND (power), H2 VCCJ (power), H3 TCK (in), H4 ~{EN_EXT_SEL} (in), H5 D1 (hiz), H6 D0 (hiz)

## XCF32PFSG48C
designator U?
XCF00P Series, Platform Flash In-System Programmable Configuration 1.8V PROM, 48 Ball BGA, 32-Megabit, Commercial Grade, Pb-Free; Published: 4-Mar-2005; LatestRevisionDate: 16-Nov-2009; LatestRevisionNote: Updated to datasheet version 2.17, Oct-2009.; DatasheetVersion: ver2.17, Oct-2009; PackageVersion: ver1.0.1, Apr-2005; PackageReference: FSG48; Publisher: Altium Limited; PackageDescription: 48-Ball Chip Scale Ball Grid Array 0.8 mm Pitch (FSG48) - Pb-Free; Supplier 1: Digi-Key; Supplier Part Number 1: 122-1457-ND; Supplier 2: Farnell; Supplier Part Number 2: 1605851; Supplier 3: Newark; Supplier Part Number 3: 12N2450; Code_JEDEC: MO-210-AD; ComponentLink1Description: Platform Flash Datasheet; ComponentLink1URL: http://www.xilinx.com/support/documentation/data_sheets/ds123.pdf; ComponentLink2Description: FSG48 Package Drawing; ComponentLink2URL: http://www.xilinx.com/support/documentation/package_specs/fs48.pdf; ComponentLink3Description: Configuration PROM Documents; ComponentLink3URL: http://www.xilinx.com/support/documentation/configuration_proms.htm; ComponentLink4Description: Xilinx.com Home; ComponentLink4URL: http://www.xilinx.com
footprint FSG48 (BGA, 48-Leads, Body 9x8mm, Pitch 0.8mm)
pins: A1 GND (power), A2 GND (power), A3 OE/~{RESET} (io), A4 DNC, A5 D6 (hiz), A6 D7 (hiz), B1 VCCINT (power), B2 VCCO (power), B3 CLK (in), B4 ~{CE} (in), B5 D5 (hiz), B6 GND (power), C1 BUSY (in), C2 CLKOUT (out), C3 DNC, C4 DNC, C5 D4 (hiz), C6 VCCO (power), D1 ~{CF} (io), D2 ~{CEO} (out), D3 DNC, D4 DNC, D5 D3 (hiz), D6 VCCO (power), E1 VCCINT (power), E2 TMS (in), E3 DNC, E4 DNC, E5 D2 (hiz), E6 TDO (out), F1 GND (power), F2 DNC, F3 DNC, F4 DNC, F5 GND (power), F6 GND (power), G1 TDI (in), G2 DNC, G3 REV_SEL0 (in), G4 REV_SEL1 (in), G5 VCCO (power), G6 VCCINT (power), H1 GND (power), H2 VCCJ (power), H3 TCK (in), H4 ~{EN_EXT_SEL} (in), H5 D1 (hiz), H6 D0 (hiz)

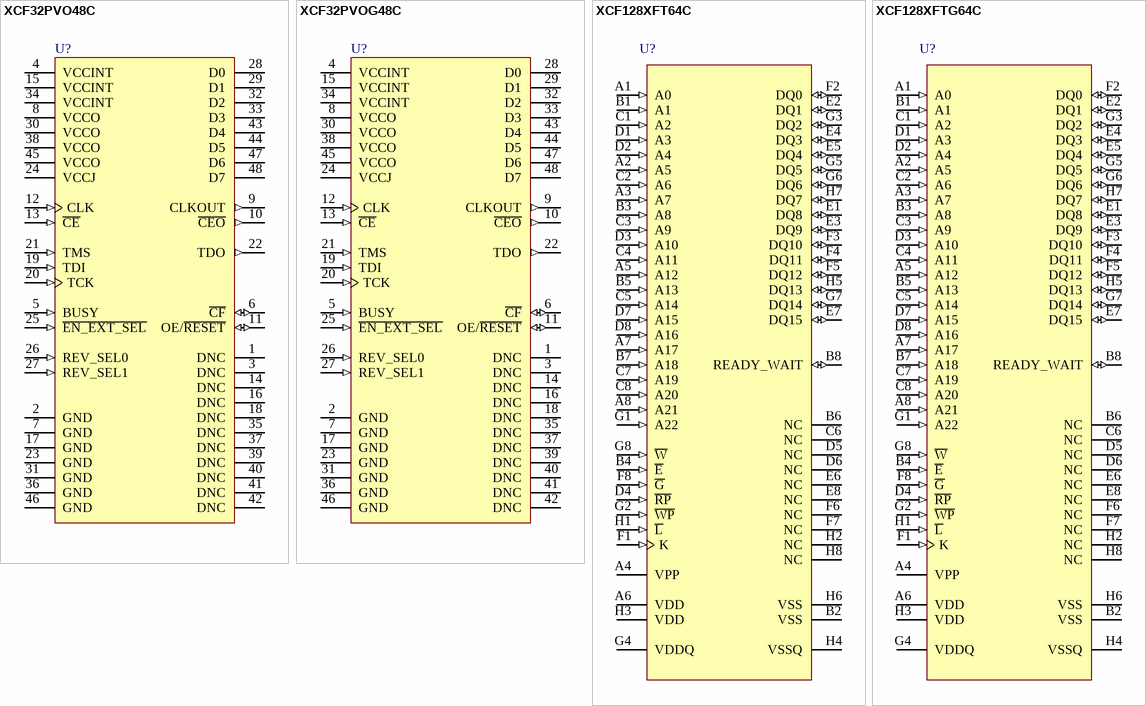
[diagram p1: symbols XCF32PVO48C to XCF128XFTG64C]

## XCF32PVO48C
designator U?
XCF00P Series, Platform Flash In-System Programmable Configuration 1.8V PROM, 48-Pin TSSOP, 32-Megabit, Commercial Grade; ComponentAvailability: Discontinued. Recommended Replacement XCF32PVOG48C; Published: 17-Dec-2003; LatestRevisionDate: 16-Nov-2009; LatestRevisionNote: Updated to datasheet version 2.17, Oct-2009.; DatasheetVersion: ver2.17, Oct-2009; PackageVersion: ver1.2.1, Mar-2005; PackageReference: VO48; Publisher: Altium Limited; PackageDescription: 48-Pin Thin Small Outline Package 0.5 mm Pitch (VO48); Code_JEDEC: MO-142-DD; ComponentLink1Description: Platform Flash Datasheet; ComponentLink1URL: http://www.xilinx.com/support/documentation/data_sheets/ds123.pdf; ComponentLink2Description: Discontinuation Notice; ComponentLink2URL: http://www.xilinx.com/support/documentation/customer_notices/xcn09030.pdf; ComponentLink3Description: VO48 Package Drawing; ComponentLink3URL: http://www.xilinx.com/support/documentation/package_specs/vo48.pdf; ComponentLink4Description: Configuration PROM Documents; ComponentLink4URL: http://www.xilinx.com/support/documentation/configuration_proms.htm; ComponentLink5Description: Xilinx.com Home; ComponentLink5URL: http://www.xilinx.com
footprint VO48_N (TSSOP, 48-Leads, Body 12x18.5mm, Pitch 0.5mm, IPC Medium Density)
footprint VO48_L (TSSOP, 48-Leads, Body 12x18.5mm, Pitch 0.5mm, IPC High Density)
footprint VO48_M (TSSOP, 48-Leads, Body 12x18.5mm, Pitch 0.5mm, IPC Low Density)
pins: 1 DNC, 2 GND (power), 3 DNC, 4 VCCINT (power), 5 BUSY (in), 6 ~{CF} (io), 7 GND (power), 8 VCCO (power), 9 CLKOUT (out), 10 ~{CEO} (out), 11 OE/~{RESET} (io), 12 CLK (in), 13 ~{CE} (in), 14 DNC, 15 VCCINT (power), 16 DNC, 17 GND (power), 18 DNC, 19 TDI (in), 20 TCK (in), 21 TMS (in), 22 TDO (out), 23 GND (power), 24 VCCJ (power), 25 ~{EN_EXT_SEL} (in), 26 REV_SEL0 (in), 27 REV_SEL1 (in), 28 D0 (hiz), 29 D1 (hiz), 30 VCCO (power), 31 GND (power), 32 D2 (hiz), 33 D3 (hiz), 34 VCCINT (power), 35 DNC, 36 GND (power), 37 DNC, 38 VCCO (power), 39 DNC, 40 DNC, 41 DNC, 42 DNC, 43 D4 (hiz), 44 D5 (hiz), 45 VCCO (power), 46 GND (power), 47 D6 (hiz), 48 D7 (hiz)

## XCF32PVOG48C
designator U?
XCF00P Series, Platform Flash In-System Programmable Configuration 1.8V PROM, 48-Pin TSSOP, 32-Megabit, Commercial Grade, Pb-Free; Published: 4-Mar-2005; DatasheetVersion: ver2.17, Oct-2009; PackageVersion: ver1.2.1, Mar-2005; PackageReference: VOG48; Publisher: Altium Limited; PackageDescription: 48-Pin Thin Small Outline Package 0.5 mm Pitch (VOG48) - Pb-Free; Supplier 1: Digi-Key; Supplier Part Number 1: 122-1458-ND; Code_JEDEC: MO-142-DD; ComponentLink1Description: Platform Flash Datasheet; ComponentLink1URL: http://www.xilinx.com/support/documentation/data_sheets/ds123.pdf; ComponentLink2Description: VOG48 Package Drawing; ComponentLink2URL: http://www.xilinx.com/support/documentation/package_specs/vo48.pdf; ComponentLink3Description: Configuration PROM Documents; ComponentLink3URL: http://www.xilinx.com/support/documentation/configuration_proms.htm; ComponentLink4Description: Xilinx.com Home; ComponentLink4URL: http://www.xilinx.com
footprint VOG48_N (TSSOP, 48-Leads, Body 12x18.5mm, Pitch 0.5mm, IPC Medium Density)
footprint VOG48_L (TSSOP, 48-Leads, Body 12x18.5mm, Pitch 0.5mm, IPC High Density)
footprint VOG48_M (TSSOP, 48-Leads, Body 12x18.5mm, Pitch 0.5mm, IPC Low Density)
pins: 1 DNC, 2 GND (power), 3 DNC, 4 VCCINT (power), 5 BUSY (in), 6 ~{CF} (io), 7 GND (power), 8 VCCO (power), 9 CLKOUT (out), 10 ~{CEO} (out), 11 OE/~{RESET} (io), 12 CLK (in), 13 ~{CE} (in), 14 DNC, 15 VCCINT (power), 16 DNC, 17 GND (power), 18 DNC, 19 TDI (in), 20 TCK (in), 21 TMS (in), 22 TDO (out), 23 GND (power), 24 VCCJ (power), 25 ~{EN_EXT_SEL} (in), 26 REV_SEL0 (in), 27 REV_SEL1 (in), 28 D0 (hiz), 29 D1 (hiz), 30 VCCO (power), 31 GND (power), 32 D2 (hiz), 33 D3 (hiz), 34 VCCINT (power), 35 DNC, 36 GND (power), 37 DNC, 38 VCCO (power), 39 DNC, 40 DNC, 41 DNC, 42 DNC, 43 D4 (hiz), 44 D5 (hiz), 45 VCCO (power), 46 GND (power), 47 D6 (hiz), 48 D7 (hiz)

## XCF128XFT64C
designator U?
Platform Flash XL High-Density Storage & Config. Device 1.8V PROM, 64-Ball FTBGA, 128 Mb, Industrial Grade; Published: 27-Jun-2008; LatestRevisionDate: 01-Mar-2010; LatestRevisionNote: Updated to datasheet version 3.0.1, Jan-2010; DatasheetVersion: ver3.0.1, Jan-2010; PackageVersion: ver1.0, May-2008; PackageReference: FT64; Publisher: Altium Limited; PackageDescription: 64-Ball Fine Pitch Thin Ball Grid Array 1 mm Pitch (FT64); Supplier 1: Newark; Supplier Part Number 1: 52R4369; ComponentLink1Description: Platform XL Flash Datasheet; ComponentLink1URL: http://www.xilinx.com/support/documentation/data_sheets/ds617.pdf; ComponentLink2Description: FT64 Package Drawing; ComponentLink2URL: http://www.xilinx.com/support/documentation/package_specs/ft64.pdf; ComponentLink3Description: Configuration PROM Documents; ComponentLink3URL: http://www.xilinx.com/support/documentation/configuration_proms.htm; ComponentLink4Description: Xilinx.com Home; ComponentLink4URL: http://www.xilinx.com
footprint FT64 (BGA, 64-Leads, Body 13x11mm, Pitch 1mm)
pins: A1 A0 (in) "Address Input.", A2 A5 (in) "Address Input.", A3 A7 (in) "Address Input.", A4 VPP (power) "Optional Supply for Fast Program & Erase.", A5 A12 (in) "Address Input.", A6 VDD (power) "Supply Voltage.", A7 A17 (in) "Address Input.", A8 A21 (in) "Address Input.", B1 A1 (in) "Address Input.", B2 VSS (power) "Ground.", B3 A8 (in) "Address Input.", B4 ~{E} (in) "Chip Enable.", B5 A13 (in) "Address Input.", B6 NC "Not Connected.", B7 A18 (in) "Address Input.", B8 READY_WAIT (io) "Ready/Wait. Requires pull-up resistor.", C1 A2 (in) "Address Input.", C2 A6 (in) "Address Input.", C3 A9 (in) "Address Input.", C4 A11 (in) "Address Input.", C5 A14 (in) "Address Input.", C6 NC "Not Connected.", C7 A19 (in) "Address Input.", C8 A20 (in) "Address Input.", D1 A3 (in) "Address Input.", D2 A4 (in) "Address Input.", D3 A10 (in) "Address Input.", D4 ~{RP} (in) "Reset.", D5 NC "Not Connected.", D6 NC "Not Connected.", D7 A15 (in) "Address Input.", D8 A16 (in) "Address Input.", E1 DQ8 (io) "Data Input/Output, Command Input.", E2 DQ1 (io) "Data Input/Output, Command Input.", E3 DQ9 (io) "Data Input/Output, Command Input.", E4 DQ3 (io) "Data Input/Output, Command Input.", E5 DQ4 (io) "Data Input/Output, Command Input.", E6 NC "Not Connected.", E7 DQ15 (io) "Data Input/Output, Command Input.", E8 NC "Not Connected.", F1 K (in) "Clock.", F2 DQ0 (io) "Data Input/Output, Command Input.", F3 DQ10 (io) "Data Input/Output, Command Input.", F4 DQ11 (io) "Data Input/Output, Command Input.", F5 DQ12 (io) "Data Input/Output, Command Input.", F6 NC "Not Connected.", F7 NC "Not Connected.", F8 ~{G} (in) "Output Enable.", G1 A22 (in) "Address Input.", G2 ~{WP} (in) "Write Protect.", G3 DQ2 (io) "Data Input/Output, Command Input.", G4 VDDQ (power) "Supply Voltage for I/O Buffer.", G5 DQ5 (io) "Data Input/Output, Command Input.", G6 DQ6 (io) "Data Input/Output, Command Input.", G7 DQ14 (io) "Data Input/Output, Command Input.", G8 ~{W} (in) "Write Enable.", H1 ~{L} (in) "Latch Enable.", H2 NC "Not Connected.", H3 VDD (power) "Supply Voltage.", H4 VSSQ (power) "Ground I/O Supply.", H5 DQ13 (io) "Data Input/Output, Command Input.", H6 VSS (power) "Ground.", H7 DQ7 (io) "Data Input/Output, Command Input.", H8 NC "Not Connected."

## XCF128XFTG64C
designator U?
Platform Flash XL High-Density Storage & Config. Device 1.8V PROM, 64-Ball FTBGA, 128 Mb, Industrial Grade, Pb-Free; Published: 27-Jun-2008; LatestRevisionDate: 01-Mar-2010; LatestRevisionNote: Updated to datasheet version 3.0.1, Jan-2010; DatasheetVersion: ver3.0.1, Jan-2010; PackageVersion: ver1.0, May-2008; PackageReference: FTG64; Publisher: Altium Limited; PackageDescription: 64-Ball Fine Pitch Thin Ball Grid Array 1 mm Pitch (FTG64) - Pb-Free; Supplier 1: Digi-Key; Supplier Part Number 1: 122-1578-ND; Supplier 2: Farnell; Supplier Part Number 2: 1762499; Supplier 3: Newark; Supplier Part Number 3: 52R3809; ComponentLink1Description: Platform XL Flash Datasheet; ComponentLink1URL: http://www.xilinx.com/support/documentation/data_sheets/ds617.pdf; ComponentLink2Description: FTG64 Package Drawing; ComponentLink2URL: http://www.xilinx.com/support/documentation/package_specs/ft64.pdf; ComponentLink3Description: Configuration PROM Documents; ComponentLink3URL: http://www.xilinx.com/support/documentation/configuration_proms.htm; ComponentLink4Description: Xilinx.com Home; ComponentLink4URL: http://www.xilinx.com
footprint FTG64 (BGA, 64-Leads, Body 13x11mm, Pitch 1mm)
pins: A1 A0 (in) "Address Input.", A2 A5 (in) "Address Input.", A3 A7 (in) "Address Input.", A4 VPP (power) "Optional Supply for Fast Program & Erase.", A5 A12 (in) "Address Input.", A6 VDD (power) "Supply Voltage.", A7 A17 (in) "Address Input.", A8 A21 (in) "Address Input.", B1 A1 (in) "Address Input.", B2 VSS (power) "Ground.", B3 A8 (in) "Address Input.", B4 ~{E} (in) "Chip Enable.", B5 A13 (in) "Address Input.", B6 NC "Not Connected.", B7 A18 (in) "Address Input.", B8 READY_WAIT (io) "Ready/Wait. Requires pull-up resistor.", C1 A2 (in) "Address Input.", C2 A6 (in) "Address Input.", C3 A9 (in) "Address Input.", C4 A11 (in) "Address Input.", C5 A14 (in) "Address Input.", C6 NC "Not Connected.", C7 A19 (in) "Address Input.", C8 A20 (in) "Address Input.", D1 A3 (in) "Address Input.", D2 A4 (in) "Address Input.", D3 A10 (in) "Address Input.", D4 ~{RP} (in) "Reset.", D5 NC "Not Connected.", D6 NC "Not Connected.", D7 A15 (in) "Address Input.", D8 A16 (in) "Address Input.", E1 DQ8 (io) "Data Input/Output, Command Input.", E2 DQ1 (io) "Data Input/Output, Command Input.", E3 DQ9 (io) "Data Input/Output, Command Input.", E4 DQ3 (io) "Data Input/Output, Command Input.", E5 DQ4 (io) "Data Input/Output, Command Input.", E6 NC "Not Connected.", E7 DQ15 (io) "Data Input/Output, Command Input.", E8 NC "Not Connected.", F1 K (in) "Clock.", F2 DQ0 (io) "Data Input/Output, Command Input.", F3 DQ10 (io) "Data Input/Output, Command Input.", F4 DQ11 (io) "Data Input/Output, Command Input.", F5 DQ12 (io) "Data Input/Output, Command Input.", F6 NC "Not Connected.", F7 NC "Not Connected.", F8 ~{G} (in) "Output Enable.", G1 A22 (in) "Address Input.", G2 ~{WP} (in) "Write Protect.", G3 DQ2 (io) "Data Input/Output, Command Input.", G4 VDDQ (power) "Supply Voltage for I/O Buffer.", G5 DQ5 (io) "Data Input/Output, Command Input.", G6 DQ6 (io) "Data Input/Output, Command Input.", G7 DQ14 (io) "Data Input/Output, Command Input.", G8 ~{W} (in) "Write Enable.", H1 ~{L} (in) "Latch Enable.", H2 NC "Not Connected.", H3 VDD (power) "Supply Voltage.", H4 VSSQ (power) "Ground I/O Supply.", H5 DQ13 (io) "Data Input/Output, Command Input.", H6 VSS (power) "Ground.", H7 DQ7 (io) "Data Input/Output, Command Input.", H8 NC "Not Connected."